# Altium footprint library TO.PcbLib: 55 footprints (part 1 of 4)
Each footprint in its own frame and in the unit in brackets; x right, y up, seen from the top. Pads: shape width x height; smd on the part's side, far side on the other; paste and mask are expansions set on the pad; w line width, h text height; cw(c..) or ccw(c..) is an arc to the next point about the centre after c.
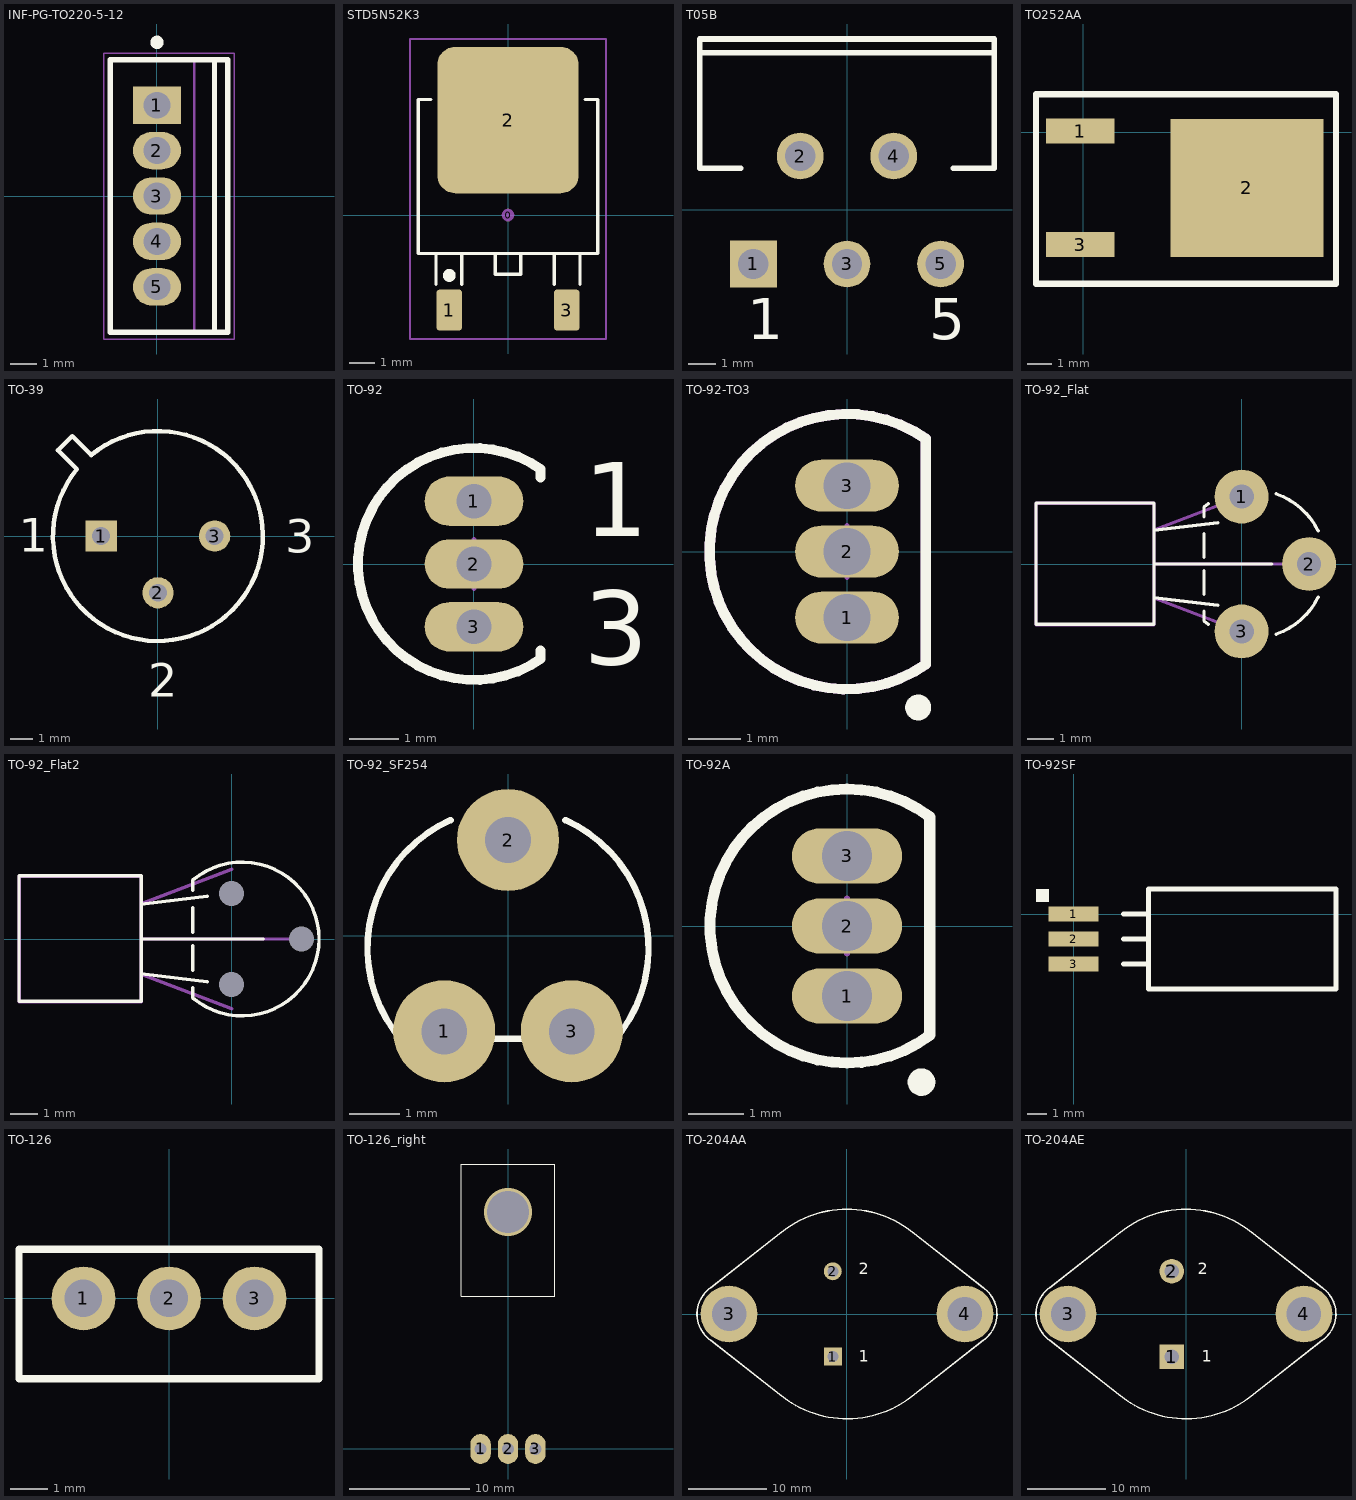
[diagram p0: the footprints below, top view; thin cyan lines are the x and y axes]

## INF-PG-TO220-5-12 [mm] "FM, 5-Leads, Body 10x4.4mm, Pitch 1.7mm"
height 17.73
pads (5):
  rect 1.8x1.4 hole 1: 1(0,3.4)
  oval 1.8x1.4 hole 1: 2(0,1.7) 3(0,0) 4(0,-1.7) 5(0,-3.4)
Top Overlay:
  circle w0.25: c0,5.75 r0.125
  lines w0.2: 2.15,-5.1 2.15,5.1 ; -1.75,-5.1 2.65,-5.1 2.65,5.1 -1.75,5.1 -1.75,-5.1
Mechanical 13:
  lines w0.1: 1.4,-5.1 1.4,5.1 ; -1.75,-5.1 -1.75,5.1 2.65,5.1 2.65,-5.1 -1.75,-5.1
Mechanical 15:
  lines w0.05: -2,-5.35 -2,5.35 2.9,5.35 2.9,-5.35 -2,-5.35
  lines w0.1: -0.5,0 0.5,0 ; 0,-0.5 0,0.5
3D body: height 0.92, standoff 0, extent -0.25,2.85 0.25,3.95
3D body: height 0, standoff -1.6, extent -0.25,3 0.25,3.8
3D body: height 0.92, standoff 0, extent -0.25,1.15 0.25,2.25
3D body: height 0, standoff -1.6, extent -0.25,1.3 0.25,2.1
3D body: height 0.92, standoff 0, extent -0.25,-0.55 0.25,0.55
3D body: height 0, standoff -1.6, extent -0.25,-0.4 0.25,0.4
3D body: height 0.92, standoff 0, extent -0.25,-2.25 0.25,-1.15
3D body: height 0, standoff -1.6, extent -0.25,-2.1 0.25,-1.3
3D body: height 0.92, standoff 0, extent -0.25,-3.95 0.25,-2.85
3D body: height 0, standoff -1.6, extent -0.25,-3.8 0.25,-3
3D body: height 11.33, standoff 0.92, extent -1.75,-5.1 2.65,5.1
3D body: height 13.11, standoff 11.33, extent 1.4,-5 2.65,5
3D body: height 13.15, standoff 13.11, extent 1.4,0.356 2.65,5
3D body: height 13.15, standoff 13.11, extent 1.4,-5 2.65,-0.356
3D body: height 16.76, standoff 16.72, extent 1.4,0.356 2.65,5
3D body: height 16.76, standoff 16.72, extent 1.4,-5 2.65,-0.356
3D body: height 13.25, standoff 13.14, extent 1.4,0.698 2.65,5
3D body: height 13.25, standoff 13.14, extent 1.4,-5 2.65,-0.698
3D body: height 16.72, standoff 16.62, extent 1.4,0.698 2.65,5
3D body: height 16.72, standoff 16.62, extent 1.4,-5 2.65,-0.698
3D body: height 13.42, standoff 13.24, extent 1.4,1.014 2.65,5
3D body: height 13.42, standoff 13.24, extent 1.4,-5 2.65,-1.014
3D body: height 16.62, standoff 16.45, extent 1.4,1.014 2.65,5
3D body: height 16.62, standoff 16.45, extent 1.4,-5 2.65,-1.014
3D body: height 13.64, standoff 13.41, extent 1.4,1.29 2.65,5
3D body: height 13.64, standoff 13.41, extent 1.4,-5 2.65,-1.29
3D body: height 16.45, standoff 16.22, extent 1.4,1.29 2.65,5
3D body: height 16.45, standoff 16.22, extent 1.4,-5 2.65,-1.29
3D body: height 13.92, standoff 13.64, extent 1.4,1.517 2.65,5
3D body: height 13.92, standoff 13.64, extent 1.4,-5 2.65,-1.517
3D body: height 16.23, standoff 15.94, extent 1.4,1.517 2.65,5
3D body: height 16.23, standoff 15.94, extent 1.4,-5 2.65,-1.517
3D body: height 14.24, standoff 13.92, extent 1.4,1.686 2.65,5
3D body: height 14.24, standoff 13.92, extent 1.4,-5 2.65,-1.686
3D body: height 15.95, standoff 15.63, extent 1.4,1.686 2.65,5
3D body: height 15.95, standoff 15.63, extent 1.4,-5 2.65,-1.686
3D body: height 14.58, standoff 14.23, extent 1.4,1.79 2.65,5
3D body: height 14.58, standoff 14.23, extent 1.4,-5 2.65,-1.79
3D body: height 15.63, standoff 15.29, extent 1.4,1.79 2.65,5
3D body: height 15.63, standoff 15.29, extent 1.4,-5 2.65,-1.79
3D body: height 14.93, standoff 14.57, extent 1.4,1.825 2.65,5
3D body: height 14.93, standoff 14.57, extent 1.4,-5 2.65,-1.825
3D body: height 15.29, standoff 14.93, extent 1.4,1.825 2.65,5
3D body: height 15.29, standoff 14.93, extent 1.4,-5 2.65,-1.825
3D body: height 17.73, standoff 16.76, extent 1.4,-5 2.65,5

## STD5N52K3 [mm] "D-PAK/TO-252-AA; 3 Leads (1 Cropped); Body 10.3 (inc. leads) x 6.7 mm (LxW max)"
height 2.38
pads (4):
  round 0.5 on Mech15: 0(0,0)
  rrect25% 1x1.6 smd: 1(-2.285,-3.7) 3(2.285,-3.7)
  rrect25% 5.5x5.7 smd: 2(0,3.7)
Top Overlay:
  circle w0.25: c-2.285,-2.35 r0.125
  lines w0.127: -3,4.5 -3.5,4.5 -3.5,-1.5 3.5,-1.5 3.5,4.5 3,4.5 ; -2.8,-2.7 -2.8,-1.5 -1.8,-1.5 -1.8,-2.7 ; 1.8,-2.7 1.8,-1.5 2.8,-1.5 2.8,-2.7 ; -0.5,-2.3 0.5,-2.3 0.5,-1.5 -0.5,-1.5 -0.5,-2.3
Mechanical 15:
  lines w0.076: -3.81,-4.826 3.81,-4.826 3.81,6.858 -3.81,6.858 -3.81,-4.826
3D body "DPAK.stp": height 2.31, standoff 0, extent -3.3,-3.951 3.3,5.762

## T05B [mm] "TO, Thru-Hole, Vertical, Heatsink Mounted; 5 Bent Staggered Leads; Pitch 1.7 mm"
height 21.1
pads (5):
  rect 1.7x1.7 hole 1.1: 1(-3.4,-1.96)
  round 1.7 hole 1.1: 2(-1.7,1.96) 3(0,-1.96) 4(1.7,1.96) 5(3.4,-1.96)
Top Overlay:
  lines w0.2: -5.35,5.71 5.35,5.71 ; -3.854,1.51 -5.35,1.51 -5.35,6.21 5.35,6.21 5.35,1.51 3.854,1.51
  text "1" at -3.62,-4.685 h1.5
  text "5" at 2.98,-4.685 h1.5

## TO252AA [mm]
height 4
pads (3):
  rect 2.75x1 smd: 1(-0.12,0.04) 3(-0.12,-4.52)
  rect 6.15x5.55 smd: 2(6.58,-2.24)
Top Overlay:
  lines w0.254: -1.905,-6.096 -1.905,1.524 10.16,1.524 10.16,-6.096 -1.905,-6.096
3D body "User Library-DPAK-1.step": height 2.34, standoff -0.07, extent -0.985,-5.505 8.954,1.035

## TO-39 [mm] "Can; 3 Leads; Pin Circle Dia. 5.08 mm; Lead Dia. 0.48 mm (max)"
height 4.55
pads (3):
  rect 1.4x1.4 hole 0.8: 1(-2.54,0)
  round 1.4 hole 0.8: 2(0,-2.54) 3(2.54,0)
Top Overlay:
  lines w0.2: -4.475,3.838 -3.626,2.99 ccw(c0,0) -2.99,3.626 -3.838,4.475 -4.475,3.838
  text "1" at -6.219,-0.697 h1.5
  text "2" at -0.433,-7.203 h1.5
  text "3" at 5.712,-0.751 h1.5

## TO-92 [mm] "TO, Flat Index; 3 In-Line, Axial Leads; Body Dia. 4.6mm; Leads 0.41 x 0.39 mm (max)"
height 4.7
pads (3):
  oval 2x1 hole 0.7: 1(0,1.27) 2(0,0) 3(0,-1.27)
Top Overlay:
  lines w0.2: 1.35,-1.75 1.35,-1.92 cw(c0,0) 1.35,1.92 1.35,1.75
  text "1" at 2.224,0.56 h1.5
  text "3" at 2.224,-2.035 h1.5
Mechanical 15:
  lines w0.1: -0.5,0 0.5,0 ; 0,-0.5 0,0.5

## TO-92-TO3 [mm] "TO, Flat Index; 3 In-Line, Axial Leads; Body Dia. 4.8mm; Leads 0.56 x 0.53 mm (max)"
height 5.33
pads (3):
  oval 2x1 hole 0.9: 1(0,-1.27) 2(0,0) 3(0,1.27)
Top Overlay:
  circle w0.25: c1.371,-3.003 r0.125
  lines w0.2: 1.52,-2.171 cw(c0,0) 1.52,2.171 1.52,-2.171
Mechanical 13:
  lines w0.2: 1.52,-2.171 cw(c0,0) 1.52,2.171 1.52,-2.171
Mechanical 15:
  lines w0.1: -0.5,0 0.5,0 ; 0,-0.5 0,0.5
3D body: height 5.33, standoff 0, extent -2.651,-2.661 1.52,2.661

## TO-92_Flat [mil]
height 151.57
pads (3):
  round 80 hole 36: 1(0,100) 2(100,0) 3(0,-100)
Top Overlay:
  lines w5: -130.03,0 45,0 ; -130,-50 -35.14,-61.16 ; -130,50 -35.14,61.16 ; -55.86,-70 -55.86,-84.45 ccw(c15,0) -49.54,-89.37 ; -55.86,-45 -55.86,-10 ; -55.86,10 -55.86,45 ; -55.86,70 -55.86,84.45 cw(c15,0) -49.54,89.37 ; 51.42,-104.05 ccw(c15,0) 113.6,-49.3 ; 51.42,104.05 cw(c15,0) 113.6,49.3 ; -305.03,-89.45 -130.03,-89.45 -130.03,90.55 -305.03,90.55 -305.03,-89.45
Mechanical 13:
  lines w5: -130,-50.44 0,-100 ; -130,0.1 100,0 ; -130,50.44 0,100 ; -305,-90 -130,-90 -130,90 -305,90 -305,-90
3D body "TO-92_Flat.STEP": height 141.73, standoff -100, extent -307.08,-109.84 109.85,109.85

## TO-92_Flat2 [mil]
height 151.57
pads (3):
  round 0 / inner round 0 / far side round 80 hole 36 unplated: 1(0,65) 2(100,0) 3(0,-65)
Top Overlay:
  lines w5: -130.03,0 45,0 ; -130,-50 -35.14,-61.16 ; -130,50 -35.14,61.16 ; -55.86,-70 -55.86,-84.45 ccw(c15,0) -55.86,84.45 -55.86,70 ; -55.86,-45 -55.86,-10 ; -55.86,10 -55.86,45 ; -305.03,-89.45 -305.03,90.55 -130.03,90.55 -130.03,-89.45 -305.03,-89.45
Mechanical 13:
  lines w5: -130,-50.44 0,-100 ; -130,0.1 100,0 ; -130,50.44 0,100 ; -305,-90 -305,90 -130,90 -130,-90 -305,-90
3D body "TO-92_Flat_Narrow.STEP": height 141.73, standoff -100, extent -307.08,-94.48 109.85,94.5

## TO-92_SF254 [mil]
pads (3):
  round 80 hole 36: 1(-50,-75) 2(0,75) 3(50,-75)
Top Overlay:
  lines w5: -70,-80.86 -84.45,-80.86 cw(c0,-10) -89.37,-74.54 cw(c0,-10) -45,90.63 ; -45,-80.86 10,-80.86 45,-80.86 ; 45,90.63 cw(c0,-10) 89.37,-74.54 cw(c0,-10) 84.45,-80.86 70,-80.86
3D body "TO-92.step": height 413.39, standoff -78.74, extent -100,-78.15 96.85,128.15

## TO-92A [mm] "TO, Flat Index; 3 In-Line, Axial Leads; Body Dia. 4.5mm; Leads 0.51 x 0.48 mm (max)"
height 6.86
pads (3):
  oval 2x1 hole 0.9: 1(0,-1.27) 2(0,0) 3(0,1.27)
Top Overlay:
  circle w0.25: c1.35,-2.83 r0.125
  lines w0.2: 1.5,-1.98 cw(c0,0) 1.5,1.98 1.5,-1.98
Mechanical 13:
  lines w0.1: 1.5,-1.98 cw(c0,0) 1.5,1.98 1.5,-1.98
Mechanical 15:
  lines w0.1: -0.5,0 0.5,0 ; 0,-0.5 0,0.5
3D body: height 6.86, standoff 2.2, extent -2.485,-2.495 1.501,2.495

## TO-92SF [mil]
pads (3):
  rect 100x30 smd: 1(0,0) 2(0,-50) 3(0,-100)
Top Overlay:
  region: -75,25 -50,25 -50,50 -75,50
  lines w10: 100,-100 150,-100 ; 100,-50 150,-50 ; 100,0 150,0 ; 150,-150 150,50 525,50 525,-150 150,-150
3D body "humidity sensor2.stp": height 79.92, standoff 0, extent -49.61,-133.66 520.08,34.45

## TO-126 [mm] "TO, Flat Index; 3 In-Line, Axial Leads; Body 8x3.45mm; Leads 0.51 x 0.85 mm (max)"
height 14.2
pads (3):
  round 1.7 hole 1: 1(-2.28,0) 2(0,0) 3(2.28,0)
Top Overlay:
  lines w0.2: -4,-2.141 4,-2.141 4,1.309 -4,1.309 -4,-2.141
3D body "alsrobot-TO-126.STEP": height 15.94, standoff -11.86, extent -3.949,-1.981 4.051,1.269

## TO-126_right [mm] "TO, Flat Index; 3 In-Line, Axial Leads; Body 8x3.45mm; Leads 0.51 x 0.85 mm (max)"
height 14.2
pads (3):
  oval 1.7x2.5 hole 1: 1(-2.28,0) 2(0,0) 3(2.28,0)
via 0,19.685 diameter 4 hole 3.5
Top Overlay:
  lines w0.1: -3.9,12.685 3.9,12.685 3.9,23.685 -3.9,23.685 -3.9,12.685
3D body "alsrobot-TO-126.STEP": height 4.19, standoff 0.94, extent -4,-4.115 4,23.685

## TO-204AA [mm] "Oval Flange Mount with (2) Offset Leads; Pin Spacing 10.92 mm; Lead Dia. 1.07 mm (max)"
height 7.87
pads (4):
  rect 2.3x2.3 hole 1.4: 1(-1.815,-5.46)
  round 2.3 hole 1.4: 2(-1.815,5.46)
  round 7.25 hole 4.4: 3(-15.075,0) 4(15.075,0)
Top Overlay:
  lines w0.2: -17.427,-3.359 -8.299,-10.521 ; -17.427,-3.358 cw(c-15.075,0) -17.427,3.359 -8.299,10.521 ; -8.613,-10.265 ccw(c0,0) 8.298,-10.521 17.427,-3.359 ; -8.613,10.265 cw(c0,0) 8.613,10.265 ; 8.299,10.521 17.427,3.359 ; 17.308,3.439 cw(c15.075,0) 17.427,-3.358
  text "1" at 1.524,-6.096 h1.5
  text "2" at 1.524,5.08 h1.5

## TO-204AE [mm] "Oval Flange Mount with (2) Offset Leads; Pin Spacing 10.92 mm; Lead Dia. 1.57 mm (max)"
height 7.87
pads (4):
  rect 3.15x3.15 hole 1.9: 1(-1.815,-5.46)
  round 3.15 hole 1.9: 2(-1.815,5.46)
  round 7.25 hole 4.4: 3(-15.075,0) 4(15.075,0)
Top Overlay:
  lines w0.2: -17.427,-3.359 -8.299,-10.521 ; -17.427,-3.358 cw(c-15.075,0) -17.427,3.359 -8.299,10.521 ; -8.613,-10.265 ccw(c0,0) 8.298,-10.521 17.427,-3.359 ; -8.613,10.265 cw(c0,0) 8.613,10.265 ; 8.299,10.521 17.427,3.359 ; 17.308,3.439 cw(c15.075,0) 17.427,-3.358
  text "2" at 1.524,5.08 h1.5
  text "1" at 2.032,-6.096 h1.5